# Altium footprint library SOIC127P1030X265-18N.PcbLib: 1 footprints
Each footprint in its own frame and in the unit in brackets; x right, y up, seen from the top. Pads: shape width x height; smd on the part's side, far side on the other; paste and mask are expansions set on the pad; w line width, h text height; cw(c..) or ccw(c..) is an arc to the next point about the centre after c.
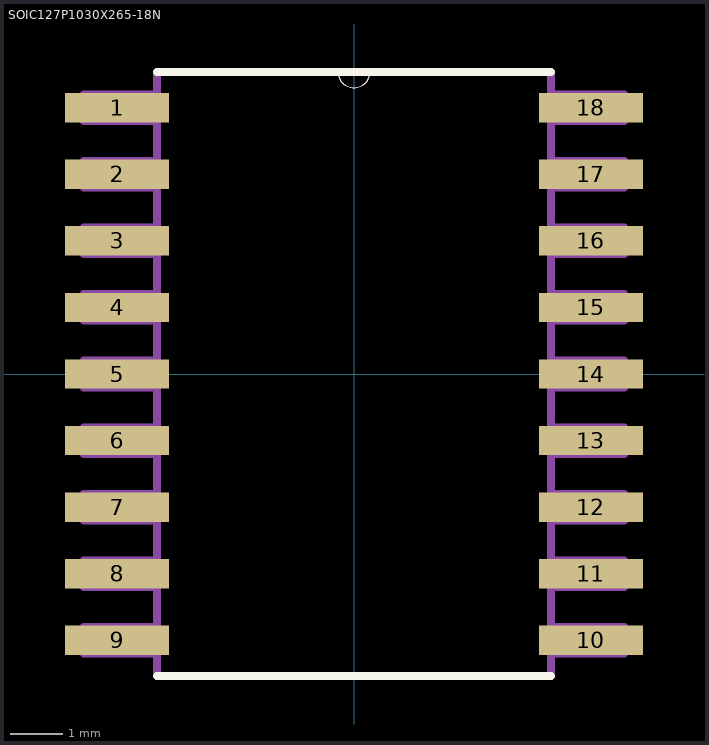
[diagram p0: the footprint, top view; thin cyan lines are the x and y axes]

## SOIC127P1030X265-18N [mil]
pads (18):
  rect 78x22 smd: 1(-178,200) 2(-178,150) 3(-178,100) 4(-178,50) 5(-178,0) 6(-178,-50) 7(-178,-100) 8(-178,-150) 9(-178,-200) 10(178,-200) 11(178,-150) 12(178,-100) 13(178,-50) 14(178,0) 15(178,50) 16(178,100) 17(178,150) 18(178,200)
Top Overlay:
  lines w0: -12,227 ccw(c0,227) 12,227
  lines w6: -148,-227 148,-227 ; -148,227 -12,227 12,227 148,227
Assembly Top:
  lines w0: -12,227 ccw(c0,227) 12,227
  lines w6: -203,-210 -203,-190 -148,-190 -148,-210 -203,-210 ; -203,-160 -203,-140 -148,-140 -148,-160 -203,-160 ; -203,-110 -203,-90 -148,-90 -148,-110 -203,-110 ; -203,-60 -203,-40 -148,-40 -148,-60 -203,-60 ; -203,-10 -203,10 -148,10 -148,-10 -203,-10 ; -203,40 -203,60 -148,60 -148,40 -203,40 ; -203,90 -203,110 -148,110 -148,90 -203,90 ; -203,140 -203,160 -148,160 -148,140 -203,140 ; -203,190 -203,210 -148,210 -148,190 -203,190 ; -148,-227 148,-227 148,227 12,227 -12,227 -148,227 -148,-227 ; 148,-210 148,-190 203,-190 203,-210 148,-210 ; 148,-160 148,-140 203,-140 203,-160 148,-160 ; 148,-110 148,-90 203,-90 203,-110 148,-110 ; 148,-60 148,-40 203,-40 203,-60 148,-60 ; 148,-10 148,10 203,10 203,-10 148,-10 ; 148,40 148,60 203,60 203,40 148,40 ; 148,90 148,110 203,110 203,90 148,90 ; 148,140 148,160 203,160 203,140 148,140 ; 148,190 148,210 203,210 203,190 148,190
3D body "step_temp.STEP": height 104.33, standoff 0, extent -202.76,-227.36 202.76,227.36